# Altium footprint library PCB1.2.PcbLib: 34 footprints (part 3 of 3)
Each footprint in its own frame and in the unit in brackets; x right, y up, seen from the top. Pads: shape width x height; smd on the part's side, far side on the other; paste and mask are expansions set on the pad; w line width, h text height; cw(c..) or ccw(c..) is an arc to the next point about the centre after c.
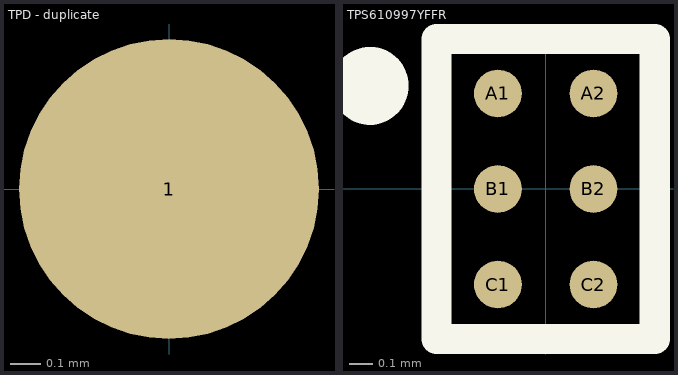
[diagram p2: the footprints below, top view; thin cyan lines are the x and y axes]

## TPD - duplicate [mm]
pads (1):
  round 1 smd: 1(0,0)

## TPS610997YFFR [mm]
height 1.18
pads (6):
  round 0.2 smd: A1(-0.2,0.4) A2(0.2,0.4) B1(-0.2,0) B2(0.2,0) C1(-0.2,-0.4) C2(0.2,-0.4)
Top Overlay:
  circle w0.254: c-0.737,0.432 r0.036
  lines w0.127: -0.457,-0.628 0.457,-0.628 0.457,0.628 -0.457,0.628 -0.457,-0.628